# Altium schematic symbol library T 70052K.Schlib: 1 symbol
Pins are listed as number, name and electrical type; pins without a type are passive.

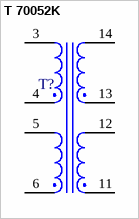
[diagram p0: symbol T 70052K]

## T 70052K
designator T?
Toroidal Transformer, PCB Mounting, 15VA
pins: 3, 4, 5, 6, 11, 12, 13, 14